# EAGLE library part AD622* (library 838_Components)
AD622 (AD622A NZ|RZ, AD622B NZ|RZ) 8-Lead DIP|SOIC Rail-to-Rail Instrumentation Amplifier, Dual Supply Analog Devices Source: www.analog.com Technologies / Packages AD622 A|B NZ|RZ A|B Grade NZ Package: 8-Lead Dual-in-Line (DIP8) RZ Package: 8-Lead Small-Outline (SOIC8) (Z = RoHs-compliant Author: Dipl.-Ing. FH Rainer Bayer HHN Hochschule Heilbronn, rainer.bayer@hs-heilbronn.de Ingenieurbüro ing-rb, mail@ing-rb.de
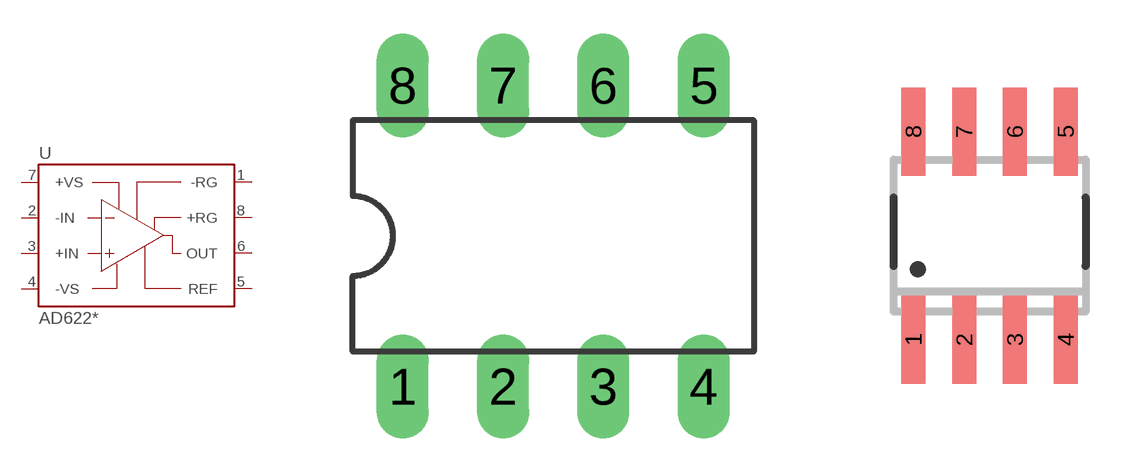
[diagram p6: symbol with the pads of DIL08; footprints DIL08, SO8]

Designator prefix -

## AD622ANZ, AD622BNZ, AD622_NZ  [DIL08]
1  -RG  pas
2  -IN  in
3  +IN  in
4  -VS  pwr
5  REF  in
6  OUT  out
7  +VS  pwr
8  +RG  pas

## AD622ARZ, AD622BRZ, AD622_RZ  [SO8]
Pads as for DIL08

## Footprint DIL08 (pad centres in mm)
Dual In Line Package
drill 0.813 long: 1 -3.81,-3.81; 2 -1.27,-3.81; 3 1.27,-3.81; 4 3.81,-3.81; 5 3.81,3.81; 6 1.27,3.81; 7 -1.27,3.81; 8 -3.81,3.81

## Footprint SO8 (pad centres in mm)
8-Lead Small Outline IC SOIC8 (SO-8) Source: http://www.analog.com/UploadedFiles/Data_Sheets/703465986AD8611_2_0.pdf
smd 0.6 x 2.2: 1 -1.905,-2.6; 2 -0.635,-2.6; 3 0.635,-2.6; 4 1.905,-2.6; 5 1.905,2.6; 6 0.635,2.6; 7 -0.635,2.6; 8 -1.905,2.6